# Altium footprint library Random.PcbLib: 25 footprints (part 2 of 2)
Each footprint in its own frame and in the unit in brackets; x right, y up, seen from the top. Pads: shape width x height; smd on the part's side, far side on the other; paste and mask are expansions set on the pad; w line width, h text height; cw(c..) or ccw(c..) is an arc to the next point about the centre after c.
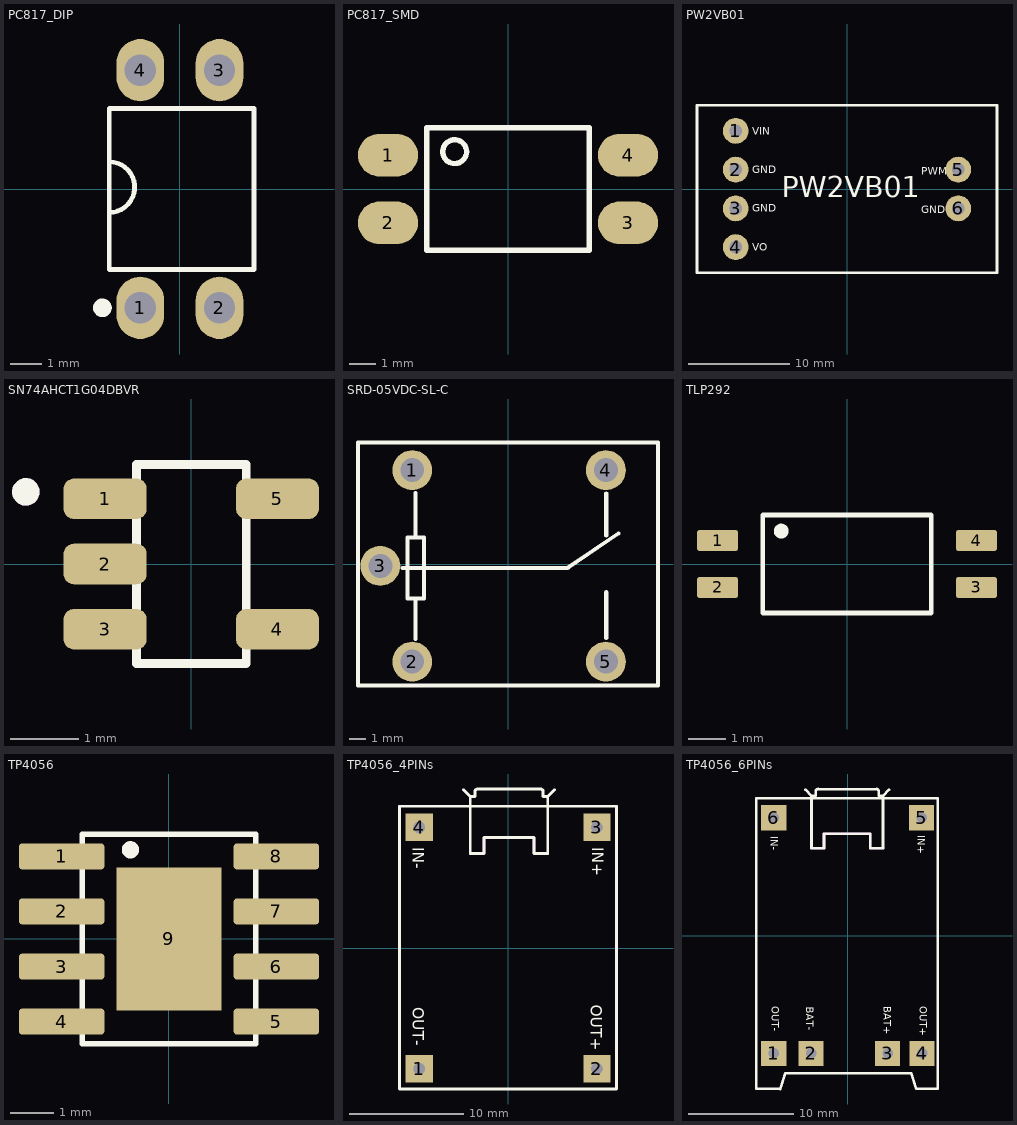
[diagram p1: the footprints below, top view; thin cyan lines are the x and y axes]

## PC817_DIP [mm] "DIP-4"
pads (4):
  oval 1.524x2 hole 1: 1(-1.27,-3.81) 2(1.27,-3.81) 3(1.27,3.81) 4(-1.27,3.81)
Top Overlay:
  circle w0.3: c-2.484,-3.81 r0.15
  lines w0.152: -2.262,-0.753 ccw(c-2.262,0.06) -2.262,0.872 ; -2.262,-2.581 2.376,-2.581 2.376,2.581 -2.262,2.581 -2.262,-2.581
3D body "PC817_DIP.stp": height 4.16, standoff -2.85, extent -2.266,-3.931 2.314,3.949

## PC817_SMD [mm]
pads (4):
  oval 2.25x1.6 smd: 1(-4.5,1.27) 2(-4.5,-1.27) 3(4.5,-1.27) 4(4.5,1.27)
Top Overlay:
  circle w0.2: c-2,1.4 r0.447
  lines w0.2: -3.05,-2.3 -3.05,2.3 3.05,2.3 3.05,-2.3 -3.05,-2.3
3D body "PC817 _SMD.STEP": height 3.6, standoff 0, extent -4.8,-2.3 4.8,2.3

## PW2VB01 [mm]
pads (6):
  round 2.54 hole 1.27 paste-2539.97 mask+0.051: 1(-10.95,5.715) 2(-10.95,1.905) 3(-10.95,-1.905) 4(-10.95,-5.715) 5(10.95,1.905) 6(10.95,-1.905)
Top Overlay:
  lines w0.254: -14.76,-8.255 -14.76,8.255 14.76,8.255 14.76,-8.255 -14.76,-8.255
  text "PWM" at 7.316,1.422 h0.76
  text "GND" at 7.316,-2.388 h0.76
  text "VO" at -9.348,-6.071 h0.76
  text "GND" at -9.348,-2.261 h0.76
  text "GND" at -9.348,1.549 h0.76
  text "VIN" at -9.348,5.359 h0.76
  text "PW2VB01" at -6.433,-0.813 h2.03
3D body "PW2VB01.SLDPRT": height 3.05, standoff 0.1, extent -14.75,-8.25 14.75,8.25

## SN74AHCT1G04DBVR [mm] "SOT-23-5"
pads (5):
  rrect50% 1.21x0.59 smd: 1(-1.255,0.95) 2(-1.255,0) 3(-1.255,-0.95) 4(1.255,-0.95) 5(1.255,0.95)
Top Overlay:
  circle w0.2: c-2.41,1.05 r0.1
  lines w0.127: -0.8,-1.45 -0.8,1.45 0.8,1.45 0.8,-1.45 -0.8,-1.45
Mechanical 13:
  circle w0.2: c-2.41,1.05 r0.1
3D body "step_temp.STEP": height 1.45, standoff 0, extent -1.4,-1.45 1.4,1.45

## SRD-05VDC-SL-C [mm]
pads (5):
  round 2.5 hole 1.5: 1(-6,5.88) 2(-6,-6.12) 3(-8,-0.12) 4(6.135,5.88) 5(6.135,-6.12)
Top Overlay:
  lines w0.254: -6.604,-0.247 3.742,-0.247 6.917,1.912 ; -5.783,-4.694 -5.783,-2.152 ; -5.783,1.658 -5.783,4.454 ; 6.155,-4.645 6.155,-1.771 ; 6.155,1.785 6.155,4.405 ; -9.398,-7.62 -9.398,7.62 9.398,7.62 9.398,-7.62 -9.398,-7.62 ; -6.291,-2.152 -6.291,1.658 -5.275,1.658 -5.275,-2.152 -6.291,-2.152
3D body "SRD-05VDC-SL-C.stp": height 15.3, standoff -5, extent -9.4,-7.5 9.4,7.5

## TLP292 [mm]
pads (4):
  rrect25% 1.11x0.57 smd: 1(-3.5,0.635) 2(-3.5,-0.635) 3(3.5,-0.635) 4(3.5,0.635)
Top Overlay:
  circle w0.2: c-1.778,0.889 r0.1
  lines w0.127: -2.275,-1.325 2.275,-1.325 2.275,1.325 -2.275,1.325 -2.275,-1.325
3D body "step_temp.STEP": height 2.3, standoff 0, extent -3.5,-1.3 3.5,1.3

## TP4056 [mm] "SOP-8-EP"
pads (9):
  rrect25% 1.97x0.6 smd: 1(-2.475,1.905) 2(-2.475,0.635) 3(-2.475,-0.635) 4(-2.475,-1.905) 5(2.475,-1.905) 6(2.475,-0.635) 7(2.475,0.635) 8(2.475,1.905)
  rect 2.413x3.302 smd paste-3: 9(0,0)
Top Overlay:
  circle w0.2: c-0.889,2.057 r0.1
  lines w0.127: -2,-2.413 2,-2.413 2,2.413 -2,2.413 -2,-2.413
Top Paste:
  region: 0.645,-0.82 -0.645,-0.82 -0.645,0.82 0.645,0.82
3D body "step_temp.STEP": height 1.75, standoff 0, extent -3,-2.45 3,2.45

## TP4056_4PINs [mm] "MODULE BATTERY CHARGER 4 PINS"
pads (4):
  rect 2.4x2.4 hole 1: 1(-7.81,-10.604) 2(7.81,-10.604) 3(7.81,10.604) 4(-7.81,10.604)
Top Overlay:
  lines w0.254: -3.903,13.914 -3.319,13.33 ; -3.319,9.926 -3.319,8.326 ; -2.912,13.762 -2.912,13.33 -3.319,13.33 ; -2.911,13.776 cw(c-2.676,13.736) -2.663,13.974 ; -2.658,13.965 2.879,13.965 ; 2.887,13.974 cw(c2.85,13.738) 3.088,13.725 ; 3.082,13.711 3.082,13.33 3.489,13.33 ; 3.489,9.926 3.489,8.326 ; 4.073,13.914 3.489,13.33 ; -3.319,8.326 -2.125,8.326 -2.125,9.723 2.295,9.723 2.295,8.326 3.489,8.326 ; -3.319,8.326 -3.319,12.619 -3.319,13.33 ; 3.489,8.326 3.489,12.619 3.489,13.33 ; -9.527,-12.383 -9.527,12.458 9.515,12.458 9.515,-12.383 -9.527,-12.383
  text "IN-" at -8.369,8.877 h1
  text "IN+" at 7.379,8.877 h1
  text "OUT-" at -8.369,-5.22 h1
  text "OUT+" at 7.252,-4.966 h1
Mechanical 15:
  lines w0.254: -3.319,8.326 -2.125,8.326 -2.125,9.723 2.295,9.723 2.295,8.326 3.489,8.326
3D body "TP4056_4PINS.stp": height 5.52, standoff 0, extent -9.652,-12.509 9.525,13.935

## TP4056_6PINs [mm] "MODULE BATTERY CHARGER 6 PINS"
pads (6):
  rect 2.4x2.4 hole 1: 1(-7.068,-11.229) 2(-3.514,-11.229) 3(3.787,-11.229) 4(7.068,-11.229) 5(7.029,11.229) 6(-7.068,11.229)
Top Overlay:
  lines w0.254: -4.049,13.904 -3.465,13.319 ; -3.893,13.071 3.727,13.071 ; -3.465,9.916 -3.465,8.316 ; -3.059,13.751 -3.059,13.319 -3.465,13.319 ; -3.058,13.765 cw(c-2.823,13.725) -2.809,13.964 ; -2.805,13.954 2.732,13.954 ; 2.741,13.964 cw(c2.703,13.728) 2.941,13.715 ; 2.936,13.7 2.936,13.319 3.342,13.319 ; 3.342,9.916 3.342,8.316 ; 3.926,13.904 3.342,13.319 ; -3.465,8.316 -3.465,12.608 -3.465,13.319 ; -3.465,8.316 -2.271,8.316 -2.271,9.713 2.148,9.713 2.148,8.316 3.342,8.316 ; 3.342,8.316 3.342,12.608 3.342,13.319 ; -8.719,-14.613 -6.458,-14.627 -5.959,-13.129 6.051,-13.129 6.536,-14.615 8.553,-14.615 8.553,13.071 -8.719,13.071 -8.719,-14.613
  text "BAT+" at 3.434,-6.729 h0.7
  text "BAT-" at -3.981,-6.792 h0.7
  text "OUT-" at -7.263,-6.729 h0.7
  text "IN-" at -7.363,9.471 h0.7
  text "OUT+" at 6.834,-6.729 h0.7
  text "IN+" at 6.637,9.571 h0.7
Mechanical 15:
  lines w0.254: -3.465,8.316 -2.271,8.316 -2.271,9.713 2.148,9.713 2.148,8.316 3.342,8.316
3D body "TP4056 .step": height 4.22, standoff 0, extent -8.683,-14.586 8.517,13.963